# EAGLE library part LM5116 (library Mine)
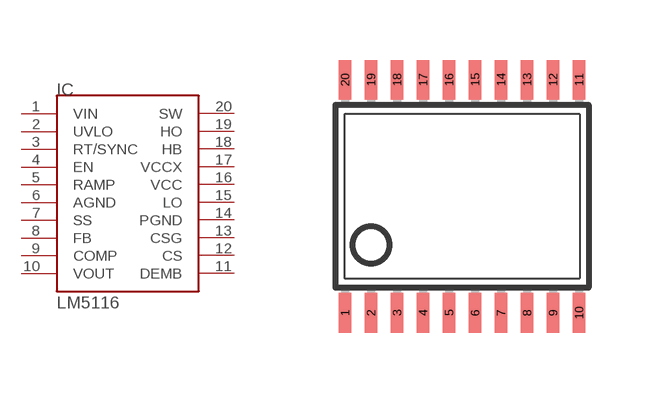
[diagram p11: symbol with the pads of TSSOP20; footprint TSSOP20]

Designator prefix IC

## LM5116  [TSSOP20]
1  VIN  pwr
2  UVLO  in
3  RT/SYNC
4  EN  in
5  RAMP  in
6  AGND  pwr
7  SS
8  FB  in
9  COMP  out
10  VOUT  pwr
11  DEMB  in
12  CS  in
13  CSG  in
14  PGND  pwr
15  LO  out
16  VCC  pwr
17  VCCX  pwr
18  HB
19  HO  out
20  SW

## Footprint TSSOP20 (pad centres in mm)
Thin Shrink Small Outline Plastic 20 MAX3223-MAX3243.pdf
smd 0.305 x 0.991: 1 -2.925,-2.918; 2 -2.275,-2.918; 3 -1.625,-2.918; 4 -0.975,-2.918; 5 -0.325,-2.918; 6 0.325,-2.918; 7 0.975,-2.918; 8 1.625,-2.918; 9 2.275,-2.918; 10 2.925,-2.918; 11 2.925,2.918; 12 2.275,2.918; 13 1.625,2.918; 14 0.975,2.918; 15 0.325,2.918; 16 -0.325,2.918; 17 -0.975,2.918; 18 -1.625,2.918; 19 -2.275,2.918; 20 -2.925,2.918